# EAGLE library part MCP2200 (library interfaces)
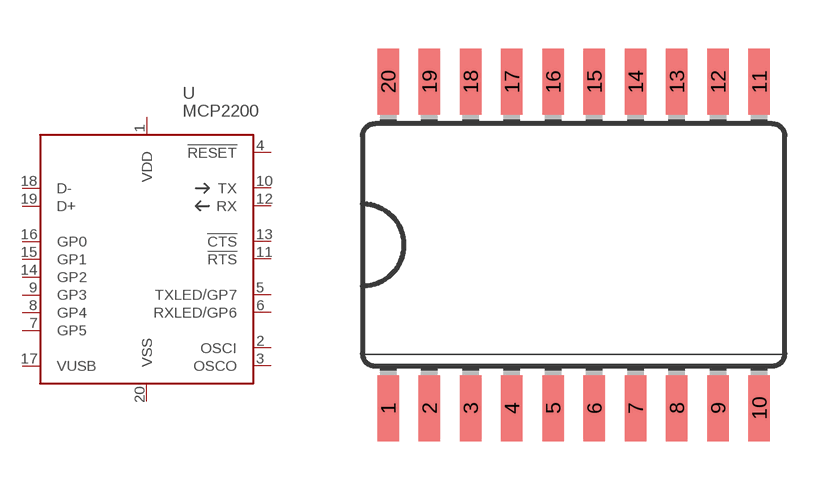
[diagram p4: symbol with the pads of SOIC20W; footprint SOIC20W]

Designator prefix U

## MCP2200 (FOOTPRINT: SOIC20W)  [SOIC20W]
1  VDD  sup
2  OSCI  in
3  OSCO  out
4  !RESET  in
5  TXLED/GP7  out
6  RXLED/GP6  out
7  GP5
8  GP4
9  GP3
10  TX  out
11  !RTS
12  RX  in
13  !CTS
14  GP2
15  GP1
16  GP0
17  VUSB  sup
18  D-
19  D+
20  VSS  sup

## Footprint SOIC20W (pad centres in mm)
Small Outline Package
smd 0.66 x 2.032: 1 -5.715,-5.029; 2 -4.445,-5.029; 3 -3.175,-5.029; 4 -1.905,-5.029; 5 -0.635,-5.029; 6 0.635,-5.029; 7 1.905,-5.029; 8 3.175,-5.029; 9 4.445,-5.029; 10 5.715,-5.029; 11 5.715,5.029; 12 4.445,5.029; 13 3.175,5.029; 14 1.905,5.029; 15 0.635,5.029; 16 -0.635,5.029; 17 -1.905,5.029; 18 -3.175,5.029; 19 -4.445,5.029; 20 -5.715,5.029